# Altium schematic symbol library PIC16F73-I_SP.SchLib: 1 symbol
Pins are listed as number, name and electrical type; pins without a type are passive.

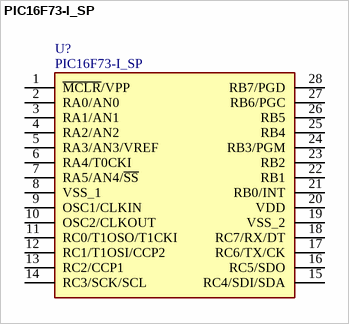
[diagram p0: symbol PIC16F73-I_SP]

## PIC16F73-I_SP
designator U?
8-bit CMOS FLASH Microcontrollers; Manufacturer_Name: Microchip; Manufacturer_Part_Number: PIC16F73-I/SP; Geometry.Height: 4.06mm; Mouser Part Number: 579-PIC16F73ISP; Mouser Price/Stock: https://www.mouser.co.uk/ProductDetail/Microchip-Technology-Atmel/PIC16F73-I-SP?qs=BJWliqx2vnXd6B3M0zIKjg%3D%3D; Datasheet Link: http://componentsearchengine.com/Datasheets/1/PIC16F73-I_SP.pdf
footprint DIP794W56P254L3467H406Q28N
pins: 1 ~{MCLR}/VPP, 2 RA0/AN0, 3 RA1/AN1, 4 RA2/AN2, 5 RA3/AN3/VREF, 6 RA4/T0CKI, 7 RA5/AN4/~{SS}, 8 VSS_1, 9 OSC1/CLKIN, 10 OSC2/CLKOUT, 11 RC0/T1OSO/T1CKI, 12 RC1/T1OSI/CCP2, 13 RC2/CCP1, 14 RC3/SCK/SCL, 15 RC4/SDI/SDA, 16 RC5/SDO, 17 RC6/TX/CK, 18 RC7/RX/DT, 19 VSS_2, 20 VDD, 21 RB0/INT, 22 RB1, 23 RB2, 24 RB3/PGM, 25 RB4, 26 RB5, 27 RB6/PGC, 28 RB7/PGD